# EAGLE library part MC14007 (library CMOS)
MC14007
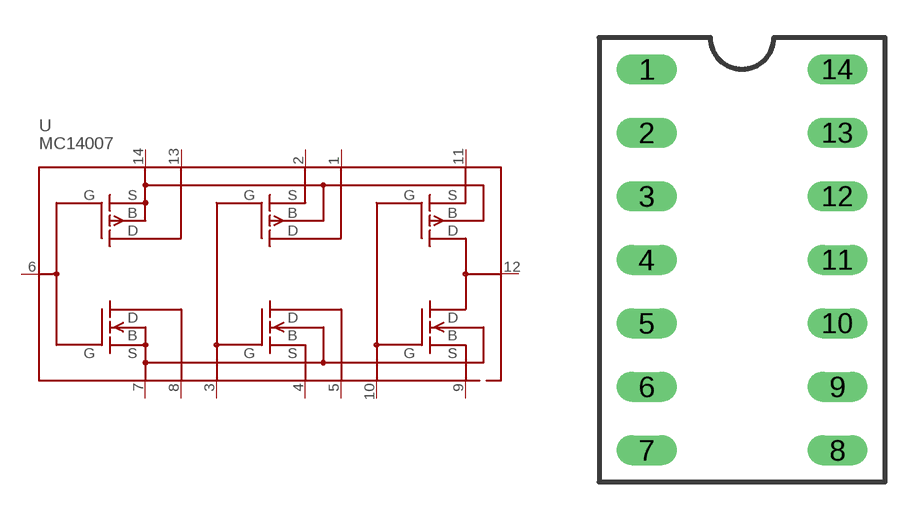
[diagram p0: symbol with the pads of DIP14; footprint DIP14]

Designator prefix U

## MC14007 (SPICE: M{NAME}A {13.NET} {6.NET} {14.NET} {14.NET} MC14007PMOS\nM{NAME}B {8.NET} {6.NET} {7.NET} {7.NET} MC14007NMOS\nM{NAME}C {1.NET} {3.NET} {2.NET} {14.NET} MC14007PMOS\nM{NAME}D {5.NET} {3.NET} {4.NET} {7.NET} MC14007NMOS\nM{NAME}E {12.NET} {10.NET} {11.NET} {14.NET} MC14007PMOS\nM{NAME}F {12.NET} {10.NET} {9.NET} {7.NET} MC14007NMOS; SPICEMOD: .model MC14007NMOS NMOS (LEVEL=2 VTo=1.4 Kp=.6m LAMBDA=0.005)\n.model MC14007PMOS PMOS (LEVEL=2 VTo=-1.0 KP=.6m LAMBDA=0.01))  [DIP14]
1  1  pas
2  2  pas
3  3  pas
4  4  pas
5  5  pas
6  6  pas
7  7  pas
8  8  pas
9  9  pas
10  10  pas
11  11  pas
12  12  pas
13  13  pas
14  14  pas

## Footprint DIP14 (pad centres in mm)
DIP14
drill 0.7 long: 1 0,7.62; 2 0,5.08; 3 0,2.54; 4 0,0; 5 0,-2.54; 6 0,-5.08; 7 0,-7.62; 8 7.62,-7.62; 9 7.62,-5.08; 10 7.62,-2.54; 11 7.62,0; 12 7.62,2.54; 13 7.62,5.08; 14 7.62,7.62